# Altium integrated library ID_330nH_B82498F3331J001.IntLib: 1 symbol
Pins are listed as number, name and electrical type; pins without a type are passive.

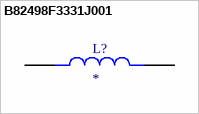
[diagram p0: symbol B82498F3331J001]

## B82498F3331J001
designator L?
MF: TDK; MP: B82498F3331J001; SnapEDA_Link: https://www.snapeda.com/parts/B82498F3331J001/TDK/view-part/?ref=snap; Availability: In Stock; Value: *; Check_prices: https://www.snapeda.com/parts/B82498F3331J001/TDK/view-part/?ref=eda; Purchase-URL: https://pricing.snapeda.com/search/part/B82498F3331J001/?ref=eda; Package: None; Price: None
footprint IND_B82498F3331J001
pins: 1, 2